# Altium schematic symbol library M12A-08PFFR-SF7003.Schlib: 1 symbol
Pins are listed as number, name and electrical type; pins without a type are passive.

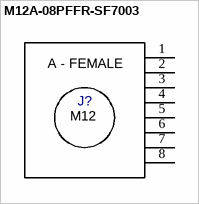
[diagram p0: symbol M12A-08PFFR-SF7003]

## M12A-08PFFR-SF7003
designator J?
M12 CONN RIGHT ANGLE ACODE
pins: 1, 2, 3, 4, 5, 6, 7, 8
text: A - FEMALE; M12